# Altium schematic symbol library AF0402FR-0710KL.SchLib: 1 symbol
Pins are listed as number, name and electrical type; pins without a type are passive.

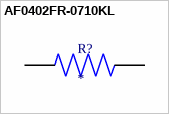
[diagram p0: symbol AF0402FR-0710KL]

## AF0402FR-0710KL
designator R?
10 kOhms Â±1% 0.063W, 1/16W Chip Resistor 0402 (1005 Metric) Anti-Sulfur, Automotive AEC-Q200 Thick Film; MF: Yageo; MP: AF0402FR-0710KL; SnapEDA_Link: https://www.snapeda.com/parts/AF0402FR-0710KL/Yageo/view-part/?ref=snap; Package: 1005 Yageo; Value: *; Check_prices: https://www.snapeda.com/parts/AF0402FR-0710KL/Yageo/view-part/?ref=eda
footprint RESC1005X37N
pins: 1, 2